# Altium schematic symbol library 43045-1000.SchLib: 1 symbol
Pins are listed as number, name and electrical type; pins without a type are passive.

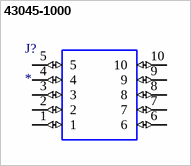
[diagram p0: symbol 43045-1000]

## 43045-1000
designator J?
Conn Wire to Board HDR 10 POS 3mm Solder RA Side Entry Thru-Hole Micro-Fit 3.0â„¢ Tray; MP: 430451000; MF: Molex; Availability: In Stock; SnapEDA_Link: https://www.snapeda.com/parts/430451000/Molex/view-part/4593745/?ref=snap; Value: *; Price: None; Package: None; Check_prices: https://www.snapeda.com/parts/430451000/Molex/view-part/4593745/?ref=eda
footprint 43045-1000
footprint 43045-1000
pins: 1 (io), 2 (io), 3 (io), 4 (io), 5 (io), 6 (io), 7 (io), 8 (io), 9 (io), 10 (io)